# EAGLE library part MSF6 (library con-lumberg)
MSF CONNECTOR
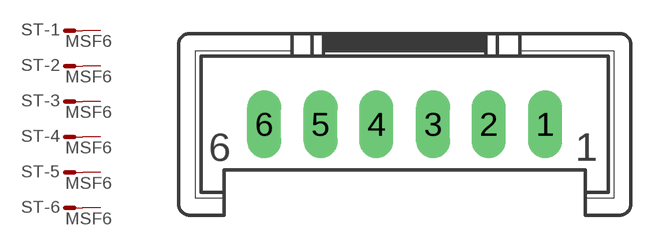
[diagram p14: symbol with the pads of MSF6; footprint MSF6]

Designator prefix ST; gates -1=M -2=M -3=M -4=M -5=M -6=M

## MSF6 (OC_FARNELL: unknown; OC_NEWARK: unknown)  [MSF6]
1  -1:S  pas
2  -2:S  pas
3  -3:S  pas
4  -4:S  pas
5  -5:S  pas
6  -6:S  pas

## Footprint MSF6 (pad centres in mm)
MSF CONNECTOR Buerklin Nr. 56 F 561
drill 1.016 long: 1 6.274,-2.54; 2 3.759,-2.54; 3 1.27,-2.54; 4 -1.27,-2.54; 5 -3.759,-2.54; 6 -6.274,-2.54